# EAGLE library part ATMEGA168ZIF (library Proofing Box Library)
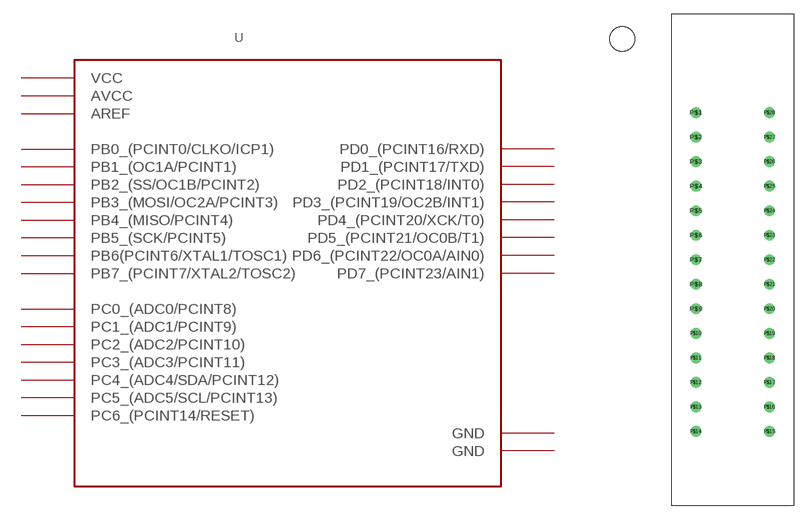
[diagram p0: symbol with the pads of ZIF228-3341; footprint ZIF228-3341]

Designator prefix -

## ATMEGA168ZIF  [ZIF228-3341]
P$1  PC6_(PCINT14/RESET)
P$2  PD0_(PCINT16/RXD)
P$3  PD1_(PCINT17/TXD)
P$4  PD2_(PCINT18/INT0)
P$5  PD3_(PCINT19/OC2B/INT1)
P$6  PD4_(PCINT20/XCK/T0)
P$7  VCC
P$8  GND
P$9  PB6(PCINT6/XTAL1/TOSC1)
P$10  PB7_(PCINT7/XTAL2/TOSC2)
P$11  PD5_(PCINT21/OC0B/T1)
P$12  PD6_(PCINT22/OC0A/AIN0)
P$13  PD7_(PCINT23/AIN1)
P$14  PB0_(PCINT0/CLKO/ICP1)
P$15  PB1_(OC1A/PCINT1)
P$16  PB2_(SS/OC1B/PCINT2)
P$17  PB3_(MOSI/OC2A/PCINT3)
P$18  PB4_(MISO/PCINT4)
P$19  PB5_(SCK/PCINT5)
P$20  AVCC
P$21  AREF
P$22  GND
P$23  PC0_(ADC0/PCINT8)
P$24  PC1_(ADC1/PCINT9)
P$25  PC2_(ADC2/PCINT10)
P$26  PC3_(ADC3/PCINT11)
P$27  PC4_(ADC4/SDA/PCINT12)
P$28  PC5_(ADC5/SCL/PCINT13)

## Footprint ZIF228-3341 (pad centres in mm)
drill 0.6: P$1 -2.54,15.24; P$2 -2.54,12.7; P$3 -2.54,10.16; P$4 -2.54,7.62; P$5 -2.54,5.08; P$6 -2.54,2.54; P$7 -2.54,0; P$8 -2.54,-2.54; P$9 -2.54,-5.08; P$10 -2.54,-7.62; P$11 -2.54,-10.16; P$12 -2.54,-12.7; P$13 -2.54,-15.24; P$14 -2.54,-17.78; P$15 5.08,-17.78; P$16 5.08,-15.24; P$17 5.08,-12.7; P$18 5.08,-10.16; P$19 5.08,-7.62; P$20 5.08,-5.08; P$21 5.08,-2.54; P$22 5.08,0; P$23 5.08,2.54; P$24 5.08,5.08; P$25 5.08,7.62; P$26 5.08,10.16; P$27 5.08,12.7; P$28 5.08,15.24